# EAGLE library part 75232 (library newchips)
TTL to RS232 driver
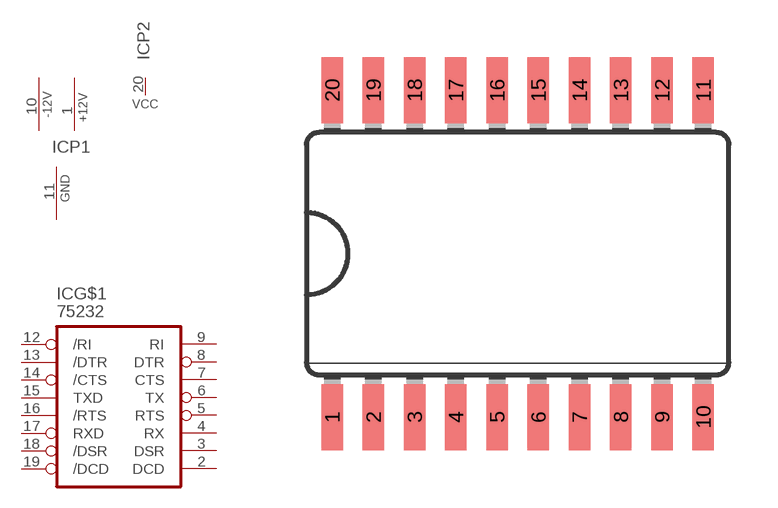
[diagram p8: symbol with the pads of SO20W; footprint SO20W]

Designator prefix IC; gates G$1=75232 P1=2PWR1GND P2=VCC

## 75232  [SO20W]
1  P1:+12V  pwr
2  G$1:DCD  in
3  G$1:DSR  in
4  G$1:RX  in
5  G$1:RTS  out
6  G$1:TX  out
7  G$1:CTS  in
8  G$1:DTR  out
9  G$1:RI  in
10  P1:-12V  pwr
11  P1:GND  pwr
12  G$1:/RI  out
13  G$1:/DTR  in
14  G$1:/CTS  out
15  G$1:TXD  in
16  G$1:/RTS  in
17  G$1:RXD  out
18  G$1:/DSR  out
19  G$1:/DCD  out
20  P2:VCC  pwr

## Footprint SO20W (pad centres in mm)
Wide Small Outline package 300 mil
smd 0.66 x 2.032: 1 -5.715,-5.029; 2 -4.445,-5.029; 3 -3.175,-5.029; 4 -1.905,-5.029; 5 -0.635,-5.029; 6 0.635,-5.029; 7 1.905,-5.029; 8 3.175,-5.029; 9 4.445,-5.029; 10 5.715,-5.029; 11 5.715,5.029; 12 4.445,5.029; 13 3.175,5.029; 14 1.905,5.029; 15 0.635,5.029; 16 -0.635,5.029; 17 -1.905,5.029; 18 -3.175,5.029; 19 -4.445,5.029; 20 -5.715,5.029